# EAGLE library part OPD-D391 (library dawidkulpa_dev)
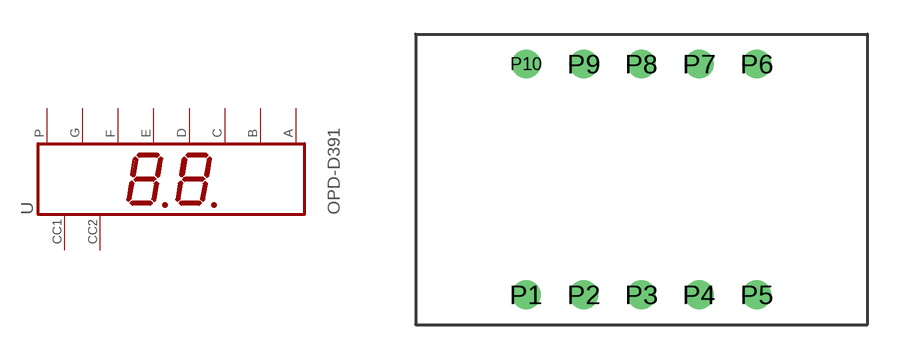
[diagram p12: symbol with the pads of OPD-D391; footprint OPD-D391]

Designator prefix -

## OPD-D391  [OPD-D391]
P1  C  pas
P2  P  pas
P3  E  pas
P4  CC2  pas
P5  D  pas
P6  F  pas
P7  G  pas
P8  B  pas
P9  CC1  pas
P10  A  pas

## Footprint OPD-D391 (pad centres in mm)
drill 0.7 pad 1.27: P1 -5.08,-5.08; P2 -2.54,-5.08; P3 0,-5.08; P4 2.54,-5.08; P5 5.08,-5.08; P6 5.08,5.08; P7 2.54,5.08; P8 0,5.08; P9 -2.54,5.08; P10 -5.08,5.08